# Altium footprint library 9-Comp+Tests.PcbLib: 125 footprints (part 4 of 8)
Each footprint in its own frame and in the unit in brackets; x right, y up, seen from the top. Pads: shape width x height; smd on the part's side, far side on the other; paste and mask are expansions set on the pad; w line width, h text height; cw(c..) or ccw(c..) is an arc to the next point about the centre after c.
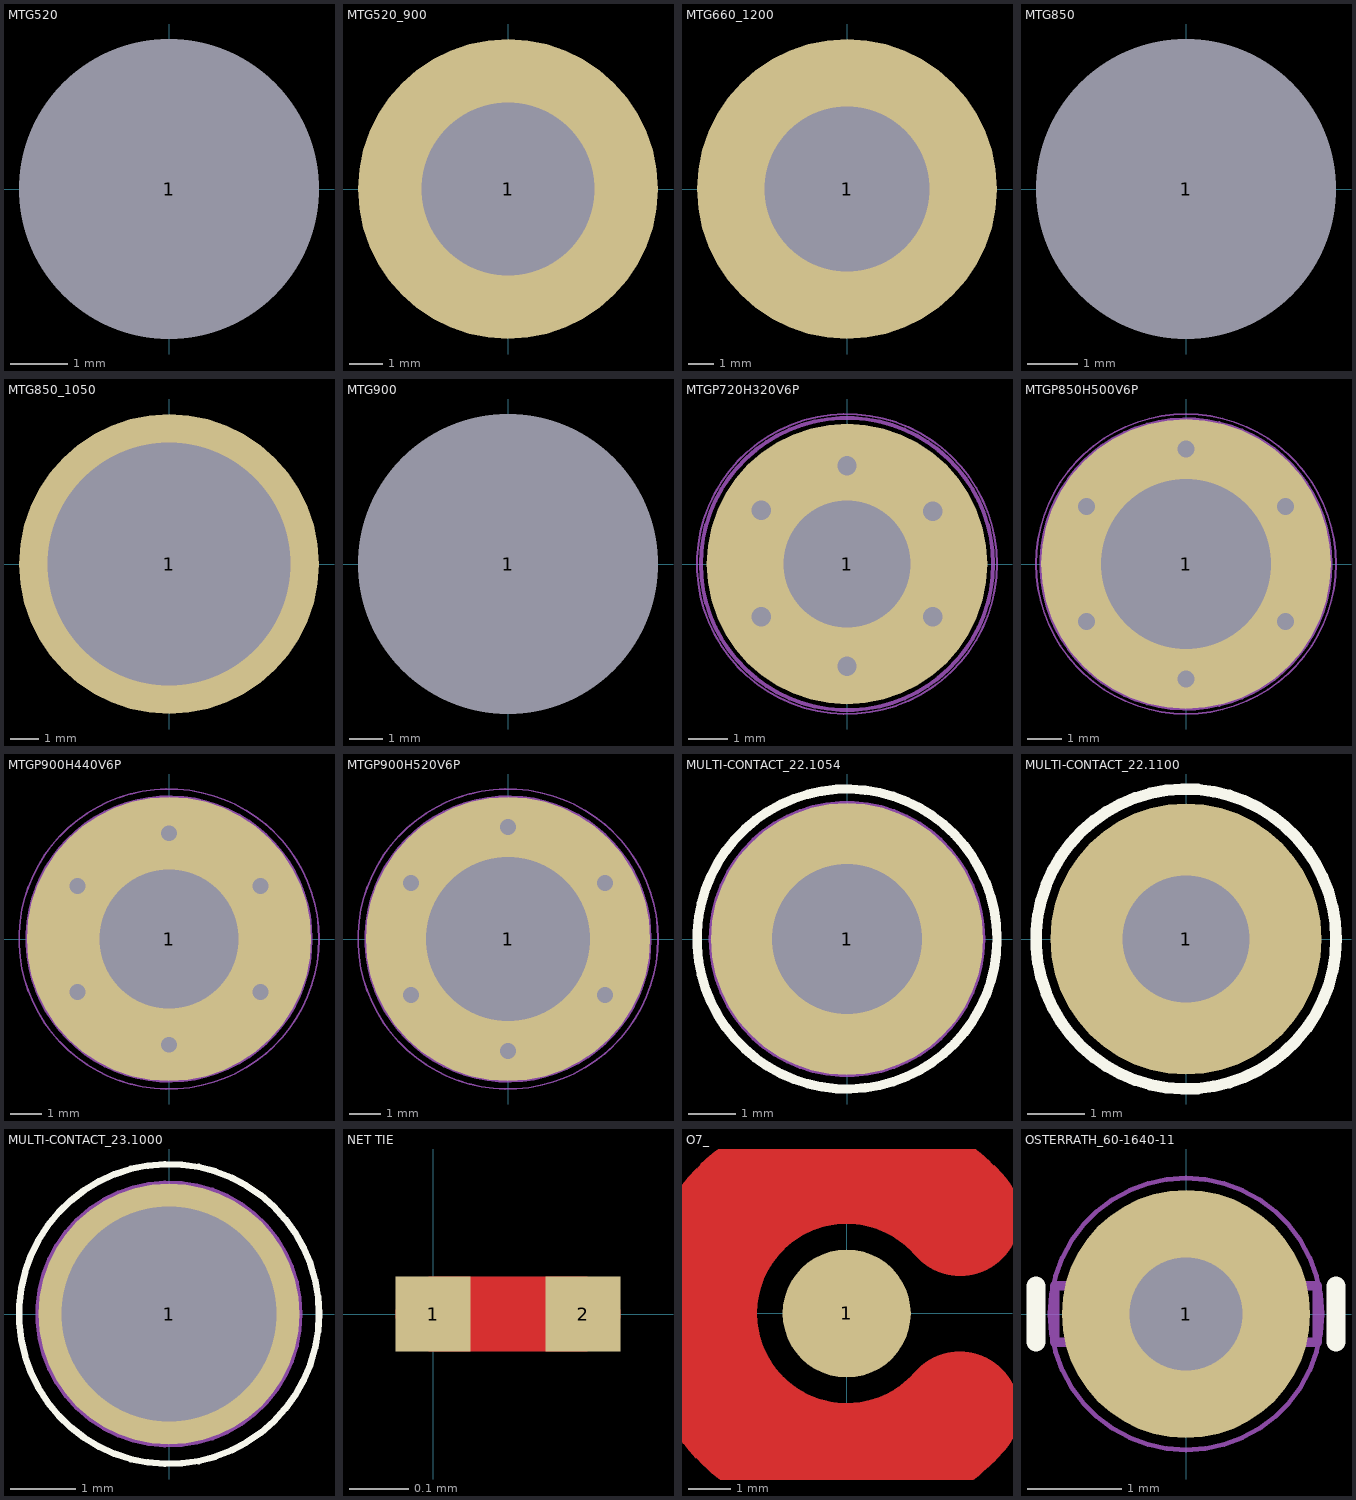
[diagram p3: the footprints below, top view; thin cyan lines are the x and y axes]

## MTG520 [mm] "Non Plated Through Hole: Hole Dia.=5.2mm"
height 11.7
pads (1):
  round 1 hole 5.2 unplated mask+2.1: 1(0,0)

## MTG520_900 [mm] "Plated Through Hole: Hole Dia.=5.2mm Pad Dia.=9.0mm"
height 11.7
pads (1):
  round 9 hole 5.2: 1(0,0)
3D body "v900-520.stp": height 0.02, standoff -1.65, extent -4.5,-4.5 4.5,4.5

## MTG660_1200 [mm] "Plated Through Hole: Hole Dia.=6.6mm Pad Dia.=12.0mm"
height 11.7
pads (1):
  round 12 hole 6.6: 1(0,0)
3D body "v1200-660.stp": height 0.02, standoff -1.65, extent -6,-6 6,6

## MTG850 [mm] "Non Plated Through Hole: Hole Dia.=8.5mm"
height 11.7
pads (1):
  round 1 hole 6 unplated: 1(0,0)

## MTG850_1050 [mm] "Plated Through Hole: Hole Dia.=8.5mm Pad Dia.=10.5mm"
height 11.7
pads (1):
  round 10.5 hole 8.5: 1(0,0)
3D body "v1050-850.stp": height 0.02, standoff -1.65, extent -5.25,-5.25 5.25,5.25

## MTG900 [mm] "Non Plated Through Hole: Hole Dia.=9.0mm"
height 11.7
pads (1):
  round 1 hole 9 unplated mask+4: 1(0,0)

## MTGP720H320V6P [mm]
pads (1):
  round 7.2 hole 3.25: 1(0,0)
via 2.2,-1.35 diameter 1 hole 0.5
via 0,-2.625 diameter 1 hole 0.5
via 2.2,1.35 diameter 1 hole 0.5
via 0,2.525 diameter 1 hole 0.5
via -2.2,1.375 diameter 1 hole 0.5
via -2.2,-1.35 diameter 1 hole 0.5
Mechanical 8:
  circle w0.1: c0,0 r3.75
  circle w0.1: c0,0 r2.6
  lines w0.1: -2.657,1.625 -2.224,1.375 ; -2.632,-1.6 -2.199,-1.35 ; -2.474,0.942 -2.224,1.375 ; -2.449,-0.917 -2.199,-1.35 ; -1.974,1.808 -2.224,1.375 ; -1.949,-1.783 -2.199,-1.35 ; -1.791,1.125 -2.224,1.375 ; -1.766,-1.1 -2.199,-1.35 ; -0.5,-2.625 0,-2.625 ; -0.5,0 0,0 ; -0.5,2.525 0,2.525 ; 0,-3.125 0,-2.625 ; 0,-2.125 0,-2.625 ; 0,-0.5 0,0 ; 0,0.5 0,0 ; 0,2.025 0,2.525 ; 0,3.025 0,2.525 ; 0.5,-2.625 0,-2.625 ; 0.5,0 0,0 ; 0.5,2.525 0,2.525 ; 1.766,-1.1 2.199,-1.35 ; 1.766,1.1 2.199,1.35 ; 1.949,-1.783 2.199,-1.35 ; 1.949,1.783 2.199,1.35 ; 2.449,-0.917 2.199,-1.35 ; 2.449,0.917 2.199,1.35 ; 2.632,-1.6 2.199,-1.35 ; 2.632,1.6 2.199,1.35
Mechanical 14:
  circle w0.1: c0,0 r3.75
Mechanical 15:
  circle w0.05: c0,0 r3.85
3D body "mtgp720h320v6p.stp": height 0.1, standoff -1.75, extent -3.627,-3.627 3.628,3.628

## MTGP850H500V6P [mm] "Plated Through Hole: Hole Dia.=5mm Pad Dia.=8.5mm + 6 Via Dia.=0.5mm"
height 11.7
pads (1):
  round 8.5 hole 5: 1(0,0)
via 0,3.375 diameter 1 hole 0.5
via 2.923,1.687 diameter 1 hole 0.5
via 2.923,-1.687 diameter 1 hole 0.5
via 0,-3.375 diameter 1 hole 0.5
via -2.923,-1.687 diameter 1 hole 0.5
via -2.923,1.687 diameter 1 hole 0.5
Mechanical 14:
  circle w0.1: c0,0 r4.25
Mechanical 15:
  circle w0.05: c0,0 r4.4
3D body "v850-500.stp": height 0.02, standoff -1.65, extent -4.25,-4.25 4.25,4.25

## MTGP900H440V6P [mm] "Plated Through Hole: Hole Dia.=4.4mm Pad Dia.=9mm + 6 Via Dia.=0.5mm"
height 11.7
pads (1):
  round 9 hole 4.4: 1(0,0)
via -2.901,-1.675 diameter 1 hole 0.5
via 2.901,-1.675 diameter 1 hole 0.5
via 0,-3.35 diameter 1 hole 0.5
via 2.901,1.675 diameter 1 hole 0.5
via 0,3.35 diameter 1 hole 0.5
via -2.901,1.675 diameter 1 hole 0.5
Mechanical 8:
  circle w0.1: c0,0 r4.5
  circle w0.1: c0,0 r2.2
  lines w0.1: -3.334,-1.925 -2.901,-1.675 ; -3.334,1.925 -2.901,1.675 ; -3.151,-1.242 -2.901,-1.675 ; -3.151,1.242 -2.901,1.675 ; -2.651,-2.108 -2.901,-1.675 ; -2.651,2.108 -2.901,1.675 ; -2.468,-1.425 -2.901,-1.675 ; -2.468,1.425 -2.901,1.675 ; -0.5,-3.35 0,-3.35 ; -0.5,0 0,0 ; -0.5,3.35 0,3.35 ; 0,-3.85 0,-3.35 ; 0,-2.85 0,-3.35 ; 0,-0.5 0,0 ; 0,0.5 0,0 ; 0,2.85 0,3.35 ; 0,3.85 0,3.35 ; 0.5,-3.35 0,-3.35 ; 0.5,0 0,0 ; 0.5,3.35 0,3.35 ; 2.468,-1.425 2.901,-1.675 ; 2.468,1.425 2.901,1.675 ; 2.651,-2.108 2.901,-1.675 ; 2.651,2.108 2.901,1.675 ; 3.151,-1.242 2.901,-1.675 ; 3.151,1.242 2.901,1.675 ; 3.334,-1.925 2.901,-1.675 ; 3.334,1.925 2.901,1.675
Mechanical 14:
  circle w0.1: c0,0 r4.5
Mechanical 15:
  circle w0.05: c0,0 r4.75
3D body "v900-440.stp": height 0.02, standoff -1.65, extent -4.5,-4.5 4.5,4.5

## MTGP900H520V6P [mm] "Plated Through Hole: Hole Dia.=4.4mm Pad Dia.=9mm + 6 Via Dia.=0.5mm"
height 11.7
pads (1):
  round 9 hole 5.2: 1(0,0)
via -3.074,-1.775 diameter 1 hole 0.5
via 3.074,-1.775 diameter 1 hole 0.5
via 0,-3.55 diameter 1 hole 0.5
via 3.074,1.775 diameter 1 hole 0.5
via 0,3.55 diameter 1 hole 0.5
via -3.074,1.775 diameter 1 hole 0.5
Mechanical 8:
  circle w0.1: c0,0 r4.5
  circle w0.1: c0,0 r2.6
  lines w0.1: -3.507,-2.025 -3.074,-1.775 ; -3.507,2.025 -3.074,1.775 ; -3.324,-1.342 -3.074,-1.775 ; -3.324,1.342 -3.074,1.775 ; -2.824,-2.208 -3.074,-1.775 ; -2.824,2.208 -3.074,1.775 ; -2.641,-1.525 -3.074,-1.775 ; -2.641,1.525 -3.074,1.775 ; -0.5,-3.55 0,-3.55 ; -0.5,0 0,0 ; -0.5,3.55 0,3.55 ; 0,-4.05 0,-3.55 ; 0,-3.05 0,-3.55 ; 0,-0.5 0,0 ; 0,0.5 0,0 ; 0,3.05 0,3.55 ; 0,4.05 0,3.55 ; 0.5,-3.55 0,-3.55 ; 0.5,0 0,0 ; 0.5,3.55 0,3.55 ; 2.641,-1.525 3.074,-1.775 ; 2.641,1.525 3.074,1.775 ; 2.824,-2.208 3.074,-1.775 ; 2.824,2.208 3.074,1.775 ; 3.324,-1.342 3.074,-1.775 ; 3.324,1.342 3.074,1.775 ; 3.507,-2.025 3.074,-1.775 ; 3.507,2.025 3.074,1.775
Mechanical 14:
  circle w0.1: c0,0 r4.5
Mechanical 15:
  circle w0.05: c0,0 r4.75
3D body "v900-520.stp": height 0.02, standoff -1.65, extent -4.5,-4.5 4.5,4.5

## MULTI-CONTACT_22.1054 [mm]
height 14.53
pads (1):
  round 5.8 hole 3.2: 1(0,0)
Top Overlay:
  circle w0.2: c0,0 r3.2
Mechanical 8:
  circle w0.1: c0,0 r2.9
  circle w0.1: c0,0 r1.75
  lines w0.1: -0.5,0 0,0 ; 0,-0.5 0,0 ; 0,0.5 0,0 ; 0.5,0 0,0
Mechanical 14:
  circle w0.1: c0,0 r1.949
  circle w0.1: c0,0 r2
  circle w0.1: c0,0 r1.8
  circle w0.1: c0,0 r2.5
3D body "MULTI-CONTACT_22.1054.stp": height 16, standoff 0, extent -2.5,-2.5 2.5,2.5

## MULTI-CONTACT_22.1100 [mm] "25A Multilam 2mm x 11mm plug, M2 x 10mm Termination"
height 13
pads (1):
  round 4.7 hole 2.2: 1(0,0)
Top Overlay:
  circle w0.2: c0,0 r2.6
Mechanical 8:
  lines w0.1: -1,0 0,0 ; 0,-1 0,0 ; 0,1 0,0 ; 1,0 0,0
Mechanical 14:
  circle w0.1: c0,0 r1
  circle w0.1: c0,0 r1.949
  lines w0.1: -1.949,-1.125 -1.949,1.125 0,2.25 1.949,1.125 1.949,-1.125 0,-2.25 -1.949,-1.125
3D body "MULTI-CONTACT_22.1100.stp": height 13, standoff -10, extent -1.948,-2.25 1.949,2.25

## MULTI-CONTACT_23.1000 [mm] "Uninsulated ?2 mm Rigid Socket"
height 2
pads (1):
  round 4 hole 3.3: 1(0,0)
Top Overlay:
  circle w0.1: c0,0 r2.3
Mechanical 8:
  circle w0.1: c0,0 r1.85
  lines w0.1: -0.5,0 0,0 ; 0,-0.5 0,0 ; 0,0.5 0,0 ; 0.5,0 0,0
Mechanical 14:
  circle w0.1: c0,0 r2
  circle w0.1: c0,0 r1
3D body "MULTI-CONTACT_23.1000.stp": height 2, standoff -4, extent -2,-2 2,2

## NET TIE [mil] "SMD Net Tie"
height 460.63
pads (2):
  rect 5x5 smd paste-2.5 mask-2.5: 1(0,0) 2(10,0)
Top Layer:
  lines w5: 0,0 10,0

## O7_ [mm]
height 11.7
pads (1):
  round 3 smd: 1(0,0)
Top Layer:
  lines w2.8: 2.647,-2.289 cw(c0,0) 2.657,2.278
Top Solder:
  circle w3.8: c0.013,-0.025 r3.5

## OSTERRATH_60-1640-11 [mm] "Soldering Tag for Printed Circuit"
height 5.6
pads (1):
  round 2.65 hole 1.2: 1(0,0)
Top Overlay:
  lines w0.2: -1.6,-0.3 -1.6,0.3 ; 1.6,-0.3 1.6,0.3
Mechanical 14:
  lines w0.1: -0.9,-0.3 -0.9,0.3 ; 0.9,-0.3 0.9,0.3 ; -1.4,-0.3 -1.4,0.3 1.4,0.3 1.4,-0.3 -1.4,-0.3
Mechanical 15:
  circle w0.05: c0,0 r1.45
3D body "OSTERRATH-60-1640-11.stp": height 5.6, standoff -3, extent -1.4,-0.3 1.4,0.3